# EAGLE library part HEADER-28 (library toyotune)
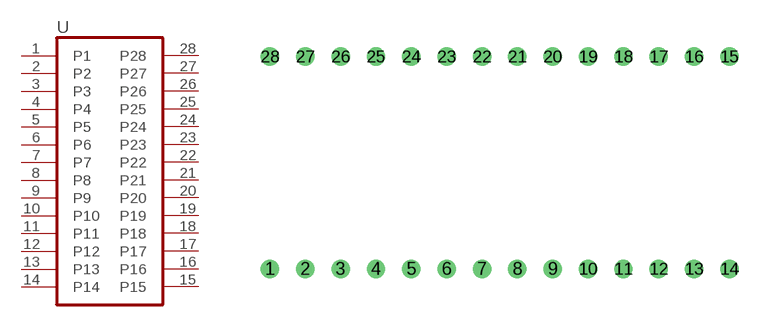
[diagram p56: symbol with the pads of HEADER-28-6; footprint HEADER-28-6]

Designator prefix -

## HEADER-28  [HEADER-28-6]
1  P1  in
2  P2  in
3  P3  in
4  P4  in
5  P5  in
6  P6  in
7  P7  in
8  P8  in
9  P9  in
10  P10  in
11  P11  in
12  P12  in
13  P13  in
14  P14  in
15  P15  in
16  P16  in
17  P17  in
18  P18  in
19  P19  in
20  P20  in
21  P21  in
22  P22  in
23  P23  in
24  P24  in
25  P25  in
26  P26  in
27  P27  in
28  P28  in

## Footprint HEADER-28-6 (pad centres in mm)
drill 0.813 round: 1 -16.51,-7.62; 2 -13.97,-7.62; 3 -11.43,-7.62; 4 -8.89,-7.62; 5 -6.35,-7.62; 6 -3.81,-7.62; 7 -1.27,-7.62; 8 1.27,-7.62; 9 3.81,-7.62; 10 6.35,-7.62; 11 8.89,-7.62; 12 11.43,-7.62; 13 13.97,-7.62; 14 16.51,-7.62; 15 16.51,7.62; 16 13.97,7.62; 17 11.43,7.62; 18 8.89,7.62; 19 6.35,7.62; 20 3.81,7.62; 21 1.27,7.62; 22 -1.27,7.62; 23 -3.81,7.62; 24 -6.35,7.62; 25 -8.89,7.62; 26 -11.43,7.62; 27 -13.97,7.62; 28 -16.51,7.62